# EAGLE library part SD-MMC (library X893)
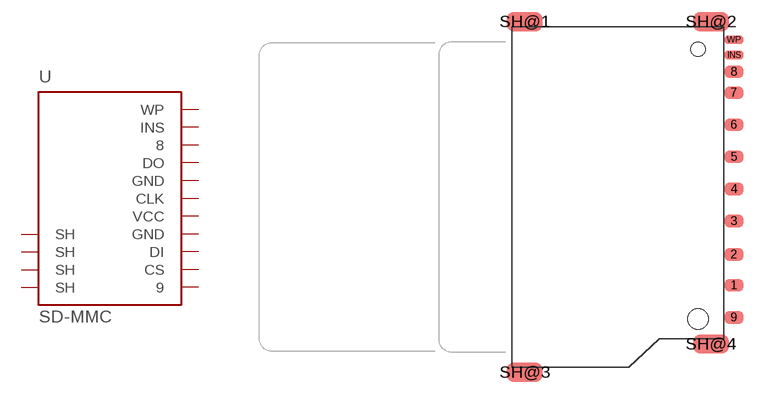
[diagram p95: symbol with the pads of SDCMF-20901W0T0; footprint SDCMF-20901W0T0]

Designator prefix -

## SD-MMC-SDCMF-20901W0T0  [SDCMF-20901W0T0]
1  CS
2  DI
3  GND
4  VCC
5  CLK
6  GND
7  DO
8  8
9  9
INS  INS
SH@1  SH
SH@2  SH
SH@3  SH
SH@4  SH
WP  WP

## Footprint SDCMF-20901W0T0 (pad centres in mm)
http://www.terraelectronica.ru/pdf/KINGFONT/SDCMF-20901W0T0.pdf
smd 1.5 x 1: 1 2.8,-6.875; 2 2.8,-4.475; 3 2.8,-1.875; 4 2.8,0.625; 5 2.8,3.125; 6 2.8,5.625; 7 2.8,8.125; 8 2.8,9.75; 9 2.8,-9.375
smd 1.5 x 0.7: INS 2.8,11.05; WP 2.8,12.25
smd 2.8 x 1.5: SH@1 -13.5,13.65; SH@2 1,13.65; SH@3 -13.5,-13.65; SH@4 1,-11.45
hole 1.6 at 0,-9.5
hole 1.1 at 0,11.5